# Altium schematic symbol library LEDs.SchLib: 1 symbol
Pins are listed as number, name and electrical type; pins without a type are passive.

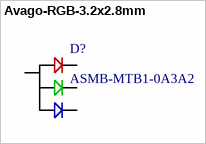
[diagram p0: symbol Avago-RGB-3.2x2.8mm]

## Avago-RGB-3.2x2.8mm
designator D?, comment ASMB-MTB1-0A3A2
Avago RGB LED 3.2x2.8mm; PartNumber: ASMB-MTB1-0A3A2; Supplier 1: Farnell; Supplier Part Number 1: 2401106
pins: 1 Kr, 2 Kg, 3 Kb, 4 A